# Altium footprint library TO.PcbLib: 21 footprints (part 2 of 2)
Each footprint in its own frame and in the unit in brackets; x right, y up, seen from the top. Pads: shape width x height; smd on the part's side, far side on the other; paste and mask are expansions set on the pad; w line width, h text height; cw(c..) or ccw(c..) is an arc to the next point about the centre after c.
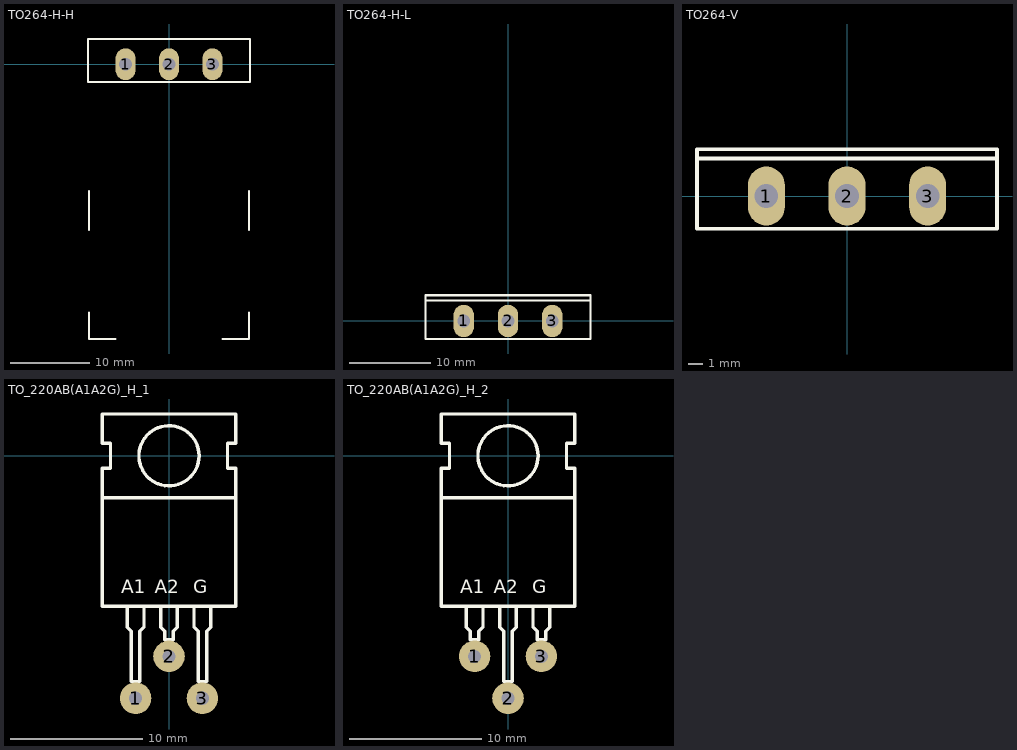
[diagram p1: the footprints below, top view; thin cyan lines are the x and y axes]

## TO264-H-H [mm]
pads (3):
  oval 2.5x4 hole 1.6: 1(-5.461,0) 2(0,0) 3(5.461,0)
Top Overlay:
  lines w0.254: -10.033,-31.242 -10.033,-34.544 -6.731,-34.544 ; -10.033,-20.828 -10.033,-15.938 ; 6.731,-34.544 10.033,-34.544 10.033,-31.242 ; 10.033,-20.828 10.033,-15.938 ; -10.16,-2.222 10.16,-2.222 10.16,3.175 -10.16,3.175 -10.16,-2.222
3D body "TO-264-3-HM.stp": height 8, standoff -6.3, extent -10,-34.526 10,0.486

## TO264-H-L [mm]
pads (3):
  oval 2.5x4 hole 1.6: 1(-5.461,0) 2(0,0) 3(5.461,0)
Top Overlay:
  lines w0.254: -10.16,2.54 10.16,2.54 ; -10.16,-2.222 10.16,-2.222 10.16,3.175 -10.16,3.175 -10.16,-2.222
Bottom Overlay:
  lines w0.254: -10.033,16.192 -10.033,21.082 ; -10.033,31.496 -10.033,34.798 -6.731,34.798 ; 6.731,34.798 10.033,34.798 10.033,31.496 ; 10.033,16.192 10.033,21.082
3D body "TO-264-3-HM.stp": height 6.3, standoff -8, extent -10,-0.295 10,34.717

## TO264-V [mm]
pads (3):
  oval 2.5x4 hole 1.6: 1(-5.461,0) 2(0,0) 3(5.461,0)
Top Overlay:
  lines w0.254: -10.16,2.54 10.16,2.54 ; -10.16,-2.222 -10.16,3.175 10.16,3.175 10.16,-2.222 -10.16,-2.222
3D body "TO-264-3-VM.stp": height 30, standoff -15.41, extent -10.001,-1.964 9.999,3.037

## TO_220AB(A1A2G)_H_1 [mm]
pads (3):
  oval 2.4x2.4 hole 1: 1(-2.54,-18.415) 2(0,-15.24) 3(2.54,-18.415)
Top Overlay:
  circle w0.254: c0,0 r2.286
  lines w0.254: -5.08,-3.175 5.08,-3.175 ; -3.175,-11.43 -3.175,-13.018 -2.857,-13.335 -2.857,-17.145 -2.222,-17.145 -2.222,-13.335 -1.905,-13.018 -1.905,-11.43 ; -0.635,-11.43 -0.635,-13.018 -0.318,-13.335 -0.318,-13.97 0.318,-13.97 0.318,-13.335 0.635,-13.018 0.635,-11.43 ; 1.905,-11.43 1.905,-13.018 2.222,-13.335 2.222,-17.145 2.857,-17.145 2.857,-13.335 3.175,-13.018 3.175,-11.43 ; -5.08,-11.43 -5.08,-0.953 -4.445,-0.953 -4.445,0.953 -5.08,0.953 -5.08,3.175 5.08,3.175 5.08,0.953 4.445,0.953 4.445,-0.953 5.08,-0.953 5.08,-11.43 -5.08,-11.43
  text "A1" at -3.633,-10.795 h1.78
  text "G" at 1.844,-10.795 h1.78
  text "A2" at -1.093,-10.795 h1.78

## TO_220AB(A1A2G)_H_2 [mm]
pads (3):
  oval 2.4x2.4 hole 1: 1(-2.54,-15.24) 2(0,-18.415) 3(2.54,-15.24)
Top Overlay:
  circle w0.254: c0,0 r2.286
  lines w0.254: -5.08,-3.175 5.08,-3.175 ; -3.175,-11.43 -3.175,-13.018 -2.857,-13.335 -2.857,-13.97 -2.222,-13.97 -2.222,-13.335 -1.905,-13.018 -1.905,-11.43 ; -0.635,-11.43 -0.635,-13.018 -0.318,-13.335 -0.318,-17.145 0.318,-17.145 0.318,-13.335 0.635,-13.018 0.635,-11.43 ; 1.905,-11.43 1.905,-13.018 2.222,-13.335 2.222,-13.97 2.857,-13.97 2.857,-13.335 3.175,-13.018 3.175,-11.43 ; -5.08,-11.43 -5.08,-0.953 -4.445,-0.953 -4.445,0.953 -5.08,0.953 -5.08,3.175 5.08,3.175 5.08,0.953 4.445,0.953 4.445,-0.953 5.08,-0.953 5.08,-11.43 -5.08,-11.43
  text "A1" at -3.633,-10.795 h1.78
  text "G" at 1.844,-10.795 h1.78
  text "A2" at -1.093,-10.795 h1.78